# EAGLE library part STM32L052C8T6 (library lib)
STM32L052C8T6 - Microcontroller 32bit 64KB
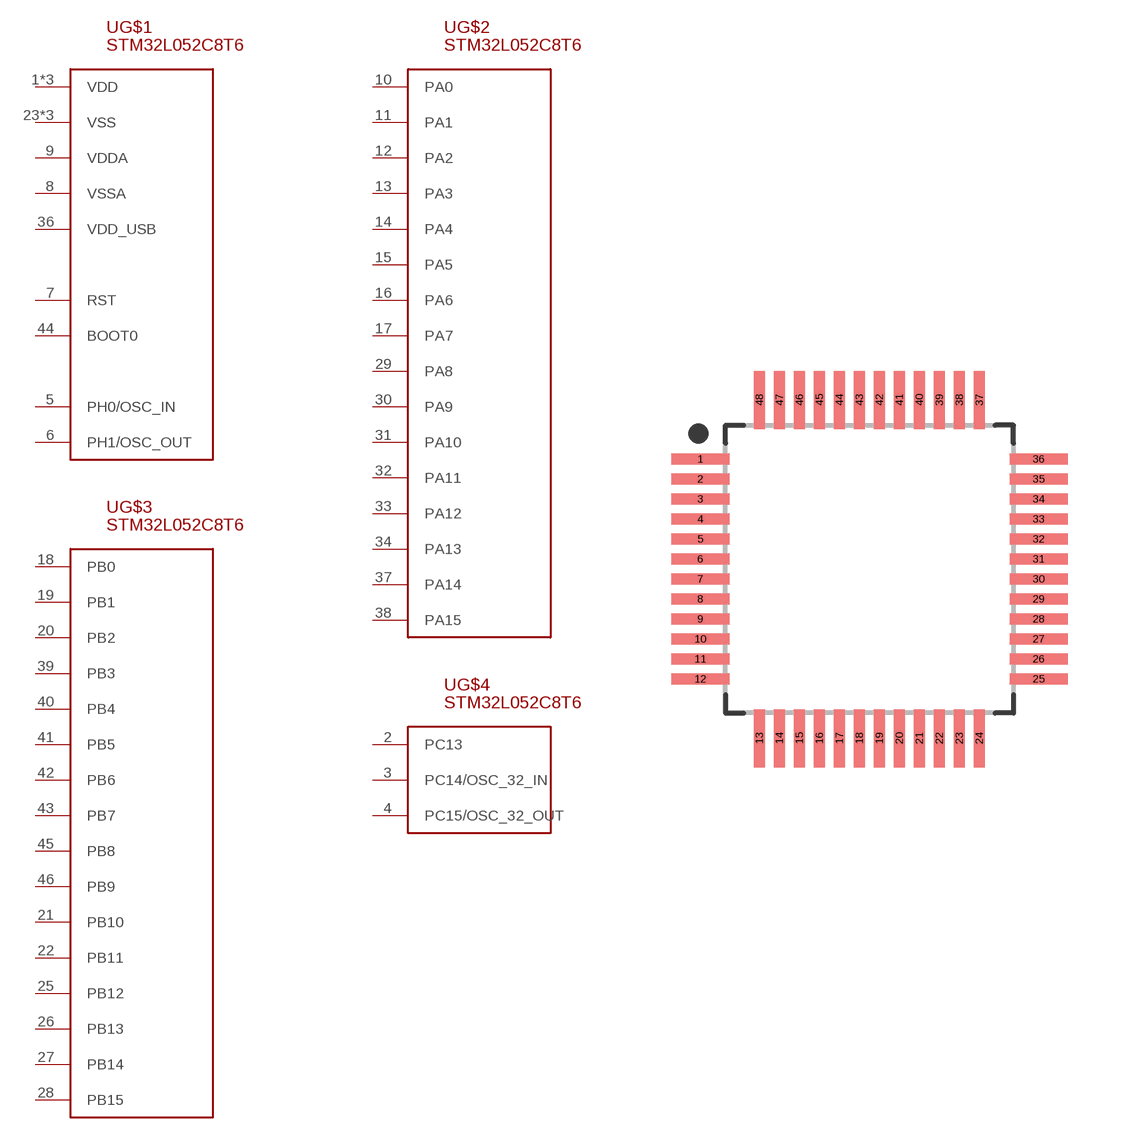
[diagram p1: symbol with the pads of QFP50P900X900X160-48N; footprint QFP50P900X900X160-48N]

Designator prefix -; gates G$1=STM32L052C8T6-PWR-MODE G$2=STM32L052C8T6-PORTA G$3=STM32L052C8T6-PORTB G$4=STM32L052C8T6-PORTC

## STM32L052C8T6LQFP48 (LINK: https://www.elfa.se/en/microcontroller-32bit-64kb-lqfp-st-stm32l052c8t6/p/30170791?q=*&pos=14&origPos=23&origPageSize=50&track=true; MPN: STM32L052C8T6; SUPPLIER: ELFA)  [QFP50P900X900X160-48N]
1  G$1:VDD  pwr
2  G$4:PC13
3  G$4:PC14/OSC_32_IN
4  G$4:PC15/OSC_32_OUT
5  G$1:PH0/OSC_IN  in
6  G$1:PH1/OSC_OUT  out
7  G$1:RST  in
8  G$1:VSSA  pwr
9  G$1:VDDA  pwr
10  G$2:PA0
11  G$2:PA1
12  G$2:PA2
13  G$2:PA3
14  G$2:PA4
15  G$2:PA5
16  G$2:PA6
17  G$2:PA7
18  G$3:PB0
19  G$3:PB1
20  G$3:PB2
21  G$3:PB10
22  G$3:PB11
23  G$1:VSS  pwr
24  G$1:VDD  pwr
25  G$3:PB12
26  G$3:PB13
27  G$3:PB14
28  G$3:PB15
29  G$2:PA8
30  G$2:PA9
31  G$2:PA10
32  G$2:PA11
33  G$2:PA12
34  G$2:PA13
35  G$1:VSS  pwr
36  G$1:VDD_USB  pwr
37  G$2:PA14
38  G$2:PA15
39  G$3:PB3
40  G$3:PB4
41  G$3:PB5
42  G$3:PB6
43  G$3:PB7
44  G$1:BOOT0  in
45  G$3:PB8
46  G$3:PB9
47  G$1:VSS  pwr
48  G$1:VDD  pwr

## Footprint QFP50P900X900X160-48N (pad centres in mm)
48-QFP, 0.50 mm pitch, 9.00 mm span, 7.00 X 7.00 X 1.60 mm body 48-pin QFP package with 0.50 mm pitch, 9.00 mm lead span1 X 9.00 mm lead span2 with body size 7.00 X 7.00 X 1.60 mm
smd 1.453 x 0.28: 1 -4.231,2.75; 2 -4.231,2.25; 3 -4.231,1.75; 4 -4.231,1.25; 5 -4.231,0.75; 6 -4.231,0.25; 7 -4.231,-0.25; 8 -4.231,-0.75; 9 -4.231,-1.25; 10 -4.231,-1.75; 11 -4.231,-2.25; 12 -4.231,-2.75; 25 4.231,-2.75; 26 4.231,-2.25; 27 4.231,-1.75; 28 4.231,-1.25; 29 4.231,-0.75; 30 4.231,-0.25; 31 4.231,0.25; 32 4.231,0.75; 33 4.231,1.25; 34 4.231,1.75; 35 4.231,2.25; 36 4.231,2.75
smd 0.28 x 1.453: 13 -2.75,-4.231; 14 -2.25,-4.231; 15 -1.75,-4.231; 16 -1.25,-4.231; 17 -0.75,-4.231; 18 -0.25,-4.231; 19 0.25,-4.231; 20 0.75,-4.231; 21 1.25,-4.231; 22 1.75,-4.231; 23 2.25,-4.231; 24 2.75,-4.231; 37 2.75,4.231; 38 2.25,4.231; 39 1.75,4.231; 40 1.25,4.231; 41 0.75,4.231; 42 0.25,4.231; 43 -0.25,4.231; 44 -0.75,4.231; 45 -1.25,4.231; 46 -1.75,4.231; 47 -2.25,4.231; 48 -2.75,4.231